# EAGLE library part LCD-4DIGIT (library Module)
4 Digit Digital LCD Created by: Wai Weng
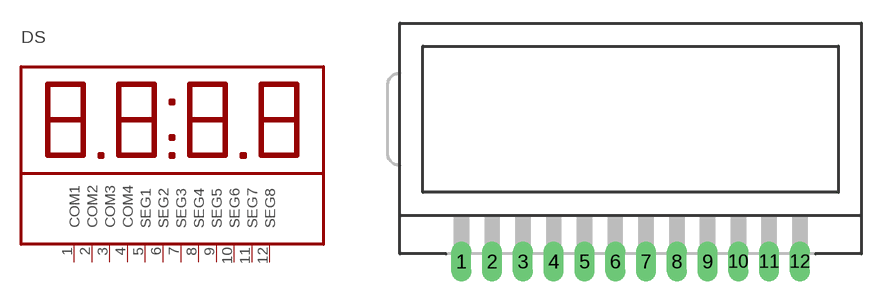
[diagram p11: symbol with the pads of LCD-4DIGIT-3015; footprint LCD-4DIGIT-3015]

Designator prefix DS

## LCD-4DIGIT (DESC: 4 Digit Digital LCD)  [LCD-4DIGIT-3015]
1  COM1
2  COM2
3  COM3
4  COM4
5  SEG1
6  SEG2
7  SEG3
8  SEG4
9  SEG5
10  SEG6
11  SEG7
12  SEG8

## Footprint LCD-4DIGIT-3015 (pad centres in mm)
4 Digit Digital LCD Size: 30mm x 15mm Created by: Wai Weng
drill 0.8 long: 1 -11,-8; 2 -9,-8; 3 -7,-8; 4 -5,-8; 5 -3,-8; 6 -1,-8; 7 1,-8; 8 3,-8; 9 5,-8; 10 7,-8; 11 9,-8; 12 11,-8